# EAGLE library part POWERBOOST1000C (library ENGR294)
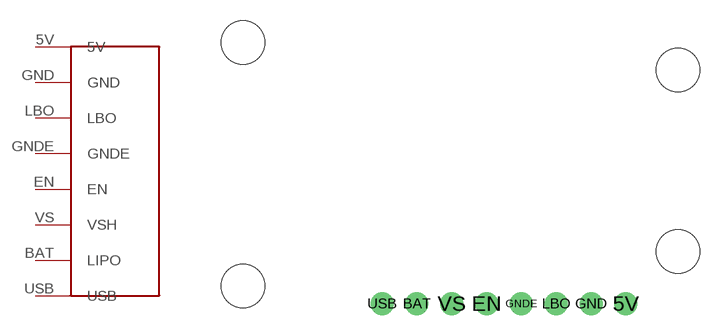
[diagram p4: symbol with the pads of POWERBOOST1000C; footprint POWERBOOST1000C]

Designator prefix -

## POWERBOOST1000C  [POWERBOOST1000C]
5V  5V
BAT  LIPO
EN  EN
GND  GND
GNDE  GNDE
LBO  LBO
USB  USB
VS  VSH

## Footprint POWERBOOST1000C (pad centres in mm)
drill 1 pad 1.676: 5V 30.48,1.27; BAT 15.24,1.27; EN 20.32,1.27; GND 27.94,1.27; GNDE 22.86,1.27; LBO 25.4,1.27; USB 12.7,1.27; VS 17.78,1.27
hole 3.175 at 2.54,20.32
hole 3.175 at 2.54,2.54
hole 3.175 at 34.29,18.288
hole 3.175 at 34.29,5.08